# Altium footprint library CapacitoresIntiSat.PCBLIB: 196 footprints (part 4 of 13)
Each footprint in its own frame and in the unit in brackets; x right, y up, seen from the top. Pads: shape width x height; smd on the part's side, far side on the other; paste and mask are expansions set on the pad; w line width, h text height; cw(c..) or ccw(c..) is an arc to the next point about the centre after c.
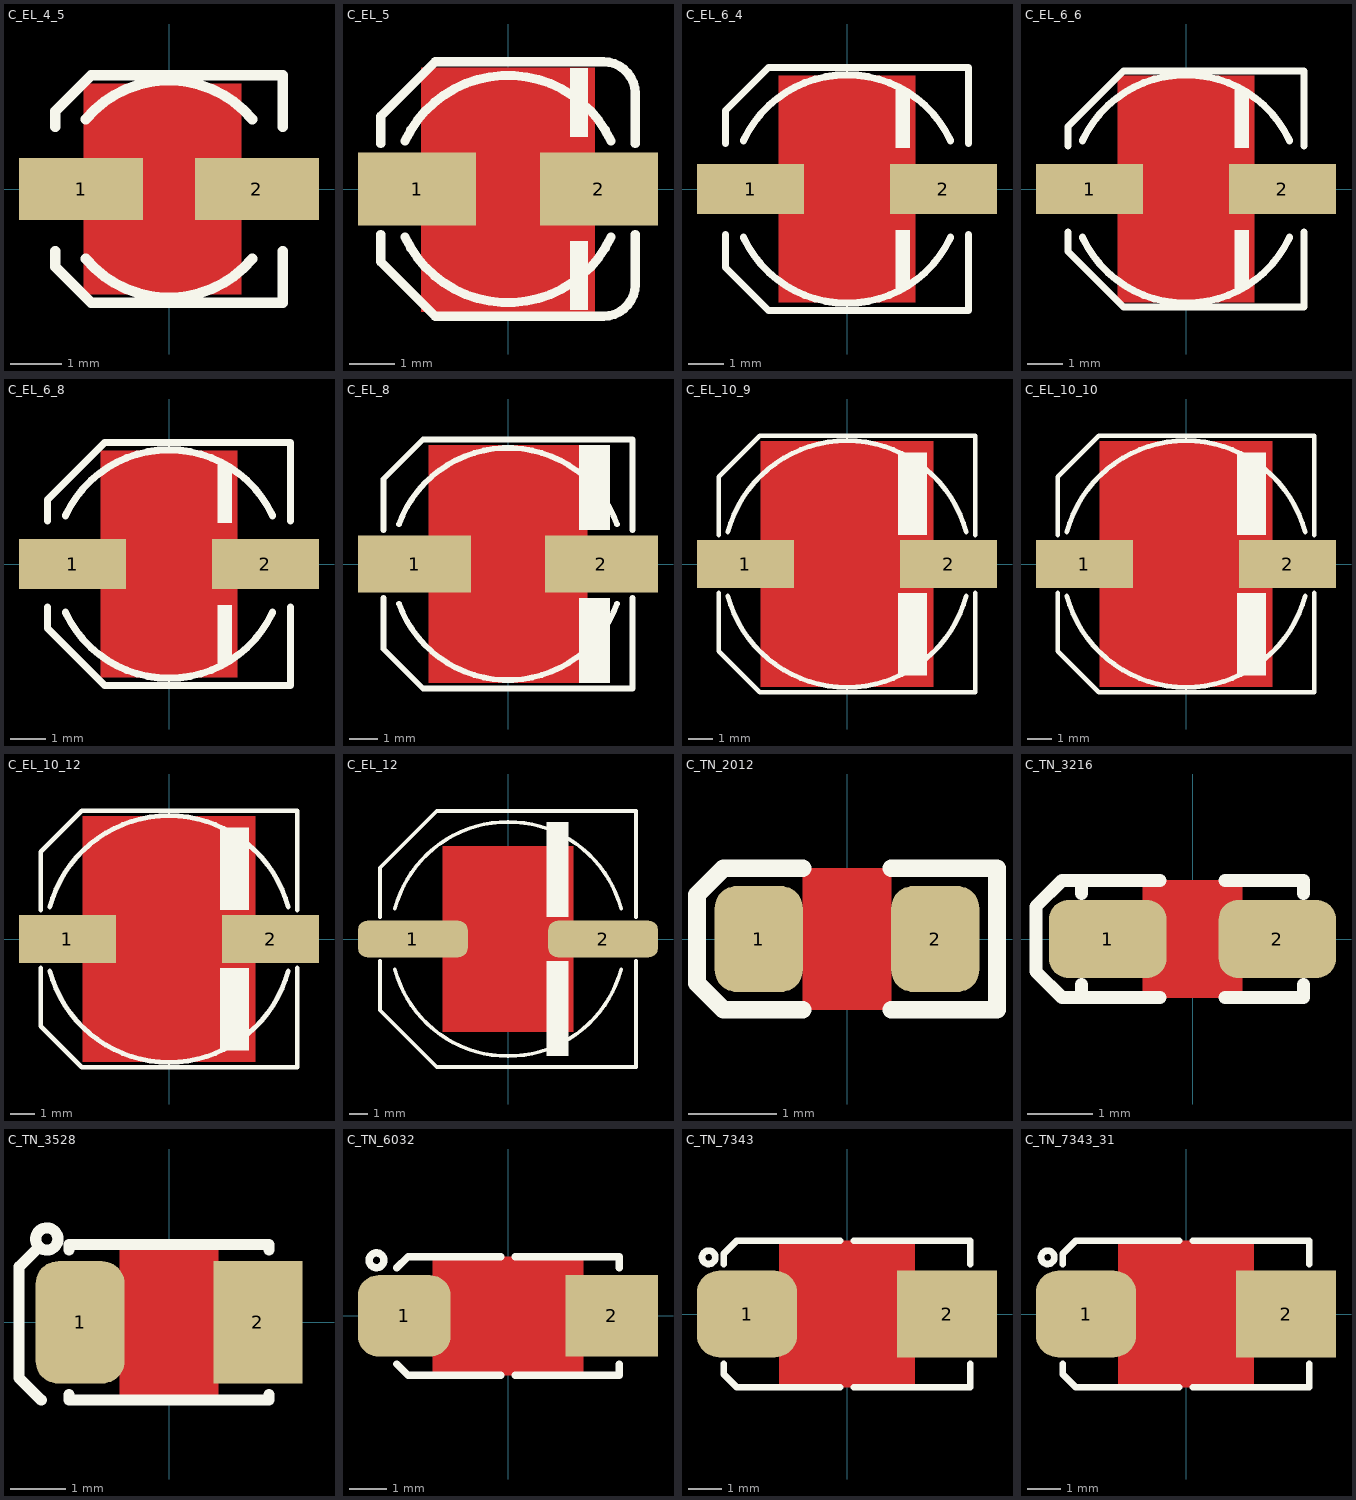
[diagram p3: the footprints below, top view; thin cyan lines are the x and y axes]

## C_EL_4_5 [mm] "Electrolytic Cap, D: 4.3mm, Size B, 5.5mm Height"
height 5.5
pads (2):
  rect 2.4x1.2 smd: 1(-1.7,0) 2(1.7,0)
Top Layer:
  pour cut-out: 1.397,2.032 1.397,-2.032 -1.651,-2.032 -1.651,2.032
Top Overlay:
  lines w0.2: -2.2,-1.2 -2.2,-1.5 -1.5,-2.2 2.2,-2.2 2.2,-1.2 ; -2.2,1.2 -2.2,1.5 -1.5,2.2 2.2,2.2 2.2,1.2 ; -1.609,-1.35 ccw(c0,0) 1.609,-1.35 ; -1.609,1.35 cw(c0,0) 1.609,1.35
3D body "4x5.5x1.stp": height 5.5, standoff 0, extent -2.5,-2.15 2.5,2.15

## C_EL_5 [mm] "Electrolytic Cap, D: 5.0mm, L: 5.8mm, Size C"
pads (2):
  rect 2.6x1.6 smd: 1(-2,0) 2(2,0)
Top Layer:
  pour cut-out: 1.905,2.667 1.905,-2.7 -1.905,-2.7 -1.905,2.667
Top Overlay:
  rectangle: 1.36,-2.667 1.76,-1.143
  rectangle: 1.36,1.143 1.76,2.667
  lines w0.2: -2.8,-1 -2.8,-1.6 -1.6,-2.8 2.1,-2.8 ccw(c2.1,-2.1) 2.8,-2.1 2.8,-1 ; -2.8,1 -2.8,1.6 -1.6,2.8 2.1,2.8 cw(c2.1,2.1) 2.8,2.1 2.8,1 ; -2.266,-1.057 ccw(c0,0) 2.266,-1.057 ; -2.266,1.057 cw(c0,0) 2.266,1.057
3D body "5x5.8x1.4.stp": height -0.4, standoff -6.2, extent -3,-2.65 3,2.65

## C_EL_6_4 [mm] "Electrolytic Cap, D: 6.3mm L: 3.9mm, Size D"
height 4
pads (2):
  rect 3x1.4 smd: 1(-2.7,0) 2(2.7,0)
Top Layer:
  pour cut-out: 1.905,3.175 1.905,-3.175 -1.905,-3.175 -1.905,3.175
Top Overlay:
  rectangle: 1.36,-2.8 1.76,-1.143
  rectangle: 1.36,1.143 1.76,2.8
  lines w0.2: -3.4,-1.27 -3.4,-2.2 -2.2,-3.4 3.4,-3.4 3.4,-1.27 ; -3.4,1.27 -3.4,2.2 -2.2,3.4 3.4,3.4 3.4,1.27 ; -2.9,-1.352 ccw(c0,0) 2.9,-1.352 ; -2.9,1.352 cw(c0,0) 2.9,1.352
3D body "User Library-CAPSMD6_3x3_9.STEP": height 3.91, standoff 0, extent -3.586,-3.3 3.414,3.3

## C_EL_6_6 [mm] "Electrolytic Cap, D: 6.3mm L: 5.8mm, Size D"
height 5.8
pads (2):
  rect 3x1.4 smd: 1(-2.7,0) 2(2.7,0)
Top Layer:
  pour cut-out: 1.905,3.175 1.905,-3.175 -1.905,-3.175 -1.905,3.175
Top Overlay:
  rectangle: 1.36,1.143 1.76,2.8
  rectangle: 1.36,-2.8 1.76,-1.143
  lines w0.2: -3.3,-1.2 -3.3,-1.75 -1.75,-3.3 3.3,-3.3 3.3,-1.2 ; -3.3,1.2 -3.3,1.75 -1.75,3.3 3.3,3.3 3.3,1.2 ; -2.9,-1.352 ccw(c0,0) 2.9,-1.352 ; -2.9,1.352 cw(c0,0) 2.9,1.352
3D body "6.3x5.8x2.2.stp": height 5.8, standoff 0, extent -3.65,-3.3 3.65,3.3

## C_EL_6_8 [mm] "Electrolytic Cap, D: 6.3mm L: 7.7mm, Size D"
height 7.7
pads (2):
  rect 3x1.4 smd: 1(-2.7,0) 2(2.7,0)
Top Layer:
  pour cut-out: 1.905,3.175 1.905,-3.175 -1.905,-3.175 -1.905,3.175
Top Overlay:
  rectangle: 1.36,-2.8 1.76,-1.143
  rectangle: 1.36,1.143 1.76,2.8
  lines w0.2: -3.4,-1.2 -3.4,-1.8 -1.8,-3.4 3.4,-3.4 3.4,-1.2 ; -3.4,1.2 -3.4,1.8 -1.8,3.4 3.4,3.4 3.4,1.2 ; -2.9,-1.352 ccw(c0,0) 2.9,-1.352 ; -2.9,1.352 cw(c0,0) 2.9,1.352
3D body "6.3x7.7x2.2.stp": height 7.7, standoff 0, extent -3.65,-3.3 3.65,3.3

## C_EL_8 [mm] "Electrolytic Cap, Size E, Size F, 8.3X10"
height 10
pads (2):
  rect 4x2 smd: 1(-3.3,0) 2(3.3,0)
Top Layer:
  pour cut-out: 2.794,4.191 2.794,-4.191 -2.794,-4.191 -2.794,4.191
Top Overlay:
  rectangle: 2.5,-4.2 3.6,-1.2
  rectangle: 2.5,1.2 3.6,4.2
  lines w0.2: -4.4,-1.2 -4.4,-3 -3,-4.4 4.4,-4.4 4.4,-1.2 ; -4.4,1.2 -4.4,3 -3,4.4 4.4,4.4 4.4,1.2 ; -3.853,-1.402 ccw(c0,0) 3.853,-1.402 ; -3.853,1.402 cw(c0,0) 3.853,1.402
3D body "Cap_0810.STEP": height 10.3, standoff -0.2, extent -4.902,-4.25 4.798,4.25

## C_EL_10_9 [mm] "Electrolytic Cap, 10.3mm, L: 8.7mm"
height 8.7
pads (2):
  rect 4x2 smd: 1(-4.2,0) 2(4.2,0)
Top Layer:
  pour cut-out: -3.556,5.08 -3.556,-5.08 3.556,-5.08 3.556,5.08
Top Overlay:
  rectangle: 2.1,-4.6 3.3,-1.2
  rectangle: 2.1,1.2 3.3,4.6
  lines w0.2: -5.3,-1.2 -5.3,-3.6 -3.6,-5.3 5.3,-5.3 5.3,-1.2 ; -5.3,1.2 -5.3,3.6 -3.6,5.3 5.3,5.3 5.3,1.2 ; -4.926,-1.32 ccw(c0,0) 4.926,-1.32 ; -4.926,1.32 cw(c0,0) 4.926,1.32
3D body "10x8.7x4.5.stp": height -0.4, standoff -9.1, extent -5.5,-5.15 5.5,5.15

## C_EL_10_10 [mm] "Electrolytic Cap, 10.3mm, L: 10mm"
height 10
pads (2):
  rect 4x2 smd: 1(-4.2,0) 2(4.2,0)
Top Layer:
  pour cut-out: -3.556,5.08 -3.556,-5.08 3.556,-5.08 3.556,5.08
Top Overlay:
  rectangle: 2.1,-4.6 3.3,-1.2
  rectangle: 2.1,1.2 3.3,4.6
  lines w0.2: -5.3,-1.2 -5.3,-3.6 -3.6,-5.3 5.3,-5.3 5.3,-1.2 ; -5.3,1.2 -5.3,3.6 -3.6,5.3 5.3,5.3 5.3,1.2 ; -4.926,-1.32 ccw(c0,0) 4.926,-1.32 ; -4.926,1.32 cw(c0,0) 4.926,1.32
3D body "User Library-cap_10x10x10-1.STEP": height 10.5, standoff 0, extent -5.901,-5.25 5.899,5.25

## C_EL_10_12 [mm] "Electrolytic Cap, 10.3mm, L: 12.4mm"
height 12.4
pads (2):
  rect 4x2 smd: 1(-4.2,0) 2(4.2,0)
Top Layer:
  pour cut-out: -3.556,5.08 -3.556,-5.08 3.556,-5.08 3.556,5.08
Top Overlay:
  rectangle: 2.1,-4.6 3.3,-1.2
  rectangle: 2.1,1.2 3.3,4.6
  lines w0.2: -5.3,-1.2 -5.3,-3.6 -3.6,-5.3 5.3,-5.3 5.3,-1.2 ; -5.3,1.2 -5.3,3.6 -3.6,5.3 5.3,5.3 5.3,1.2 ; -4.926,-1.32 ccw(c0,0) 4.926,-1.32 ; -4.926,1.32 cw(c0,0) 4.926,1.32
3D body "10x12.4x4.5.stp": height 12.45, standoff 0.05, extent -5.5,-5.15 5.5,5.15

## C_EL_12 [mm] "Electrolytic Cap, 12.5x13mm"
height 10
pads (2):
  rrect50% 6x2 smd mask+0.1: 1(-5.2,0) 2(5.2,0)
Top Layer:
  pour cut-out: -3.556,5.08 -3.556,-5.08 3.556,-5.08 3.556,5.08
Top Overlay:
  rectangle: 2.1,-6.4 3.3,-1.2
  rectangle: 2.1,1.2 3.3,6.4
  lines w0.2: -7,-1.2 -7,-3.9 -3.9,-7 7,-7 7,-1.2 ; -7,1.2 -7,3.9 -3.9,7 7,7 7,1.2 ; -6.182,-1.656 ccw(c0,0) 6.182,-1.656 ; -6.182,1.656 cw(c0,0) 6.182,1.656
3D body "User Library-ALU-H16.step": height 17, standoff 0, extent -7.75,-6.85 7.75,6.85

## C_TN_2012 [mm] "CAPACITOR, TAN N, TAN P, TAN R, 0805P, 2X1.3mm"
pads (2):
  rrect50% 1x1.2 smd mask+0.075: 1(-1,0) 2(1,0)
Top Layer:
  pour cut-out: -0.5,0.8 0.5,0.8 0.5,-0.8 -0.5,-0.8
Top Overlay:
  lines w0.2: -0.5,-0.8 -1.4,-0.8 -1.7,-0.5 -1.7,0.5 -1.4,0.8 -0.5,0.8 ; 0.5,-0.8 1.7,-0.8 1.7,0.8 0.5,0.8
3D body "User Library-Tantalum Capacitor Case R.STEP": height 1.35, standoff 0, extent -1.042,-0.685 1.208,0.665

## C_TN_3216 [mm] "CAPACITOR, TAN A, 1206P, 3.2x1.6mm"
height 1.8
pads (2):
  rrect50% 1.8x1.2 smd mask+0.075: 1(-1.3,0) 2(1.3,0)
Top Layer:
  pour cut-out: -0.762,0.9 0.762,0.9 0.762,-0.9 -0.762,-0.9
Top Overlay:
  lines w0.2: -1.7,-0.7 -1.7,-0.9 ; -1.7,0.7 -1.7,0.9 ; -0.5,-0.9 -1.7,-0.9 ; -0.5,0.9 -1.7,0.9 ; 0.5,-0.9 1.7,-0.9 1.7,-0.7 ; 0.5,0.9 1.7,0.9 1.7,0.7 ; -1.7,-0.9 -2,-0.9 -2.4,-0.5 -2.4,0.5 -2,0.9 -1.7,0.9
3D body "User Library-CAP_TANT_3216-18_A_case-1.step": height 1.7, standoff 0, extent -1.7,-0.9 1.7,0.9

## C_TN_3528 [mm] "CAPACITOR, TAN B, TAN H, TAN T, TAN M, 3528P, 1210P, 3.5X2.8mm"
pads (2):
  rrect50% 1.6x2.2 smd mask+0.1: 1(-1.6,0)
  rect 1.6x2.2 smd mask+0.1: 2(1.6,0)
Top Layer:
  pour cut-out: -0.889,1.4 -0.889,-1.4 0.889,-1.4 0.889,1.4
Top Overlay:
  circle w0.2: c-2.2,1.5 r0.2
  lines w0.2: -2.35,1.35 -2.7,1 -2.7,-1 -2.3,-1.4 ; -1.8,-1.3 -1.8,-1.4 1.8,-1.4 1.8,-1.3 ; -1.8,1.3 -1.8,1.4 1.8,1.4 1.8,1.3
3D body "User Library-AVX_BCASE.step": height 2.03, standoff 0, extent -1.85,-1.465 1.85,1.465

## C_TN_6032 [mm] "CAPACITOR, TAN C, TAN F, TAN U, TAN L, 6032P, 6.0X3.2mm"
height 2.8
pads (2):
  rrect50% 2.5x2.2 smd: 1(-2.8,0)
  rect 2.5x2.2 smd: 2(2.8,0)
Top Layer:
  pour cut-out: -2.032,1.6 2.032,1.6 2.032,-1.6 -2.032,-1.6
Top Overlay:
  circle w0.2: c-3.55,1.5 r0.2
  lines w0.2: -3,-1.3 -2.7,-1.6 -0.2,-1.6 ; -3,1.3 -2.7,1.6 -0.2,1.6 ; 0.2,-1.6 3,-1.6 3,-1.3 ; 0.2,1.6 3,1.6 3,1.3
3D body "User Library-CAP_TANT_6032-28_y.step": height 2.8, standoff 0, extent -3.15,-1.75 3.15,1.75

## C_TN_7343 [mm] "CAPACITOR, TAN D, TAN E, TAN Y, TAN X, 7343P, 7.3X4.3mm"
height 4.3
pads (2):
  rrect50% 3x2.6 smd: 1(-3,0)
  rect 3x2.6 smd: 2(3,0)
Top Layer:
  pour cut-out: -2.032,2.2 -2.032,-2.2 2.032,-2.2 2.032,2.2
Top Overlay:
  circle w0.2: c-4.15,1.7 r0.2
  lines w0.2: -3.7,-1.5 -3.7,-1.8 -3.3,-2.2 -0.2,-2.2 ; -3.7,1.5 -3.7,1.8 -3.3,2.2 -0.2,2.2 ; 0.2,-2.2 3.7,-2.2 3.7,-1.5 ; 0.2,2.2 3.7,2.2 3.7,1.5
3D body "User Library-AVX_E_CASE.step": height 4.2, standoff 0, extent -3.7,-2.225 3.701,2.225

## C_TN_7343_31 [mm] "CAPACITOR, TAN D, TAN E, TAN Y, TAN X, 7343P, 7.3X4.3mm"
height 3.1
pads (2):
  rrect50% 3x2.6 smd: 1(-3,0)
  rect 3x2.6 smd: 2(3,0)
Top Layer:
  pour cut-out: -2.032,2.2 -2.032,-2.2 2.032,-2.2 2.032,2.2
Top Overlay:
  circle w0.2: c-4.15,1.7 r0.2
  lines w0.2: -3.7,-1.5 -3.7,-1.8 -3.3,-2.2 -0.2,-2.2 ; -3.7,1.5 -3.7,1.8 -3.3,2.2 -0.2,2.2 ; 0.2,-2.2 3.7,-2.2 3.7,-1.5 ; 0.2,2.2 3.7,2.2 3.7,1.5
3D body "SW3dPS-cap_d.STEP": height 2.81, standoff 0, extent -3.647,-2.15 3.647,2.15